# EAGLE library part ATXMEGA8E5-AU (library pimoroni)
8-bit Microcontroller
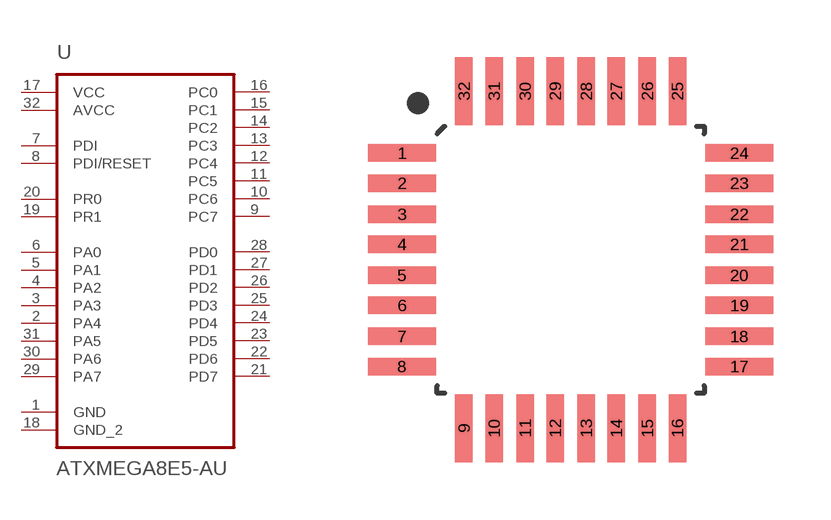
[diagram p51: symbol with the pads of QFP80P900X900X120-32N; footprint QFP80P900X900X120-32N]

Designator prefix U

## ATXMEGA8E5-AU (MPN: ATxmega8E5-AU; PACKAGE: QFP-32; SUPPLIER: Atmel)  [QFP80P900X900X120-32N]
1  GND  pas
2  PA4
3  PA3
4  PA2
5  PA1
6  PA0
7  PDI
8  PDI/RESET
9  PC7
10  PC6
11  PC5
12  PC4
13  PC3
14  PC2
15  PC1
16  PC0
17  VCC  pwr
18  GND_2  pas
19  PR1
20  PR0
21  PD7
22  PD6
23  PD5
24  PD4
25  PD3
26  PD2
27  PD1
28  PD0
29  PA7
30  PA6
31  PA5
32  AVCC  pwr

## Footprint QFP80P900X900X120-32N (pad centres in mm)
smd 1.778 x 0.457: 1 -4.415,2.794; 2 -4.415,2.007; 3 -4.415,1.194; 4 -4.415,0.406; 5 -4.415,-0.406; 6 -4.415,-1.194; 7 -4.415,-2.007; 8 -4.415,-2.794; 17 4.415,-2.794; 18 4.415,-2.007; 19 4.415,-1.194; 20 4.415,-0.406; 21 4.415,0.406; 22 4.415,1.194; 23 4.415,2.007; 24 4.415,2.794
smd 0.457 x 1.778: 9 -2.794,-4.415; 10 -2.007,-4.415; 11 -1.194,-4.415; 12 -0.406,-4.415; 13 0.406,-4.415; 14 1.194,-4.415; 15 2.007,-4.415; 16 2.794,-4.415; 25 2.794,4.415; 26 2.007,4.415; 27 1.194,4.415; 28 0.406,4.415; 29 -0.406,4.415; 30 -1.194,4.415; 31 -2.007,4.415; 32 -2.794,4.415